# Altium schematic symbol library Capacitor.SchLib: 2 symbols
Pins are listed as number, name and electrical type; pins without a type are passive.

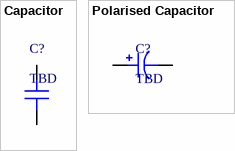
[diagram p0: symbols Capacitor to Polarised Capacitor]

## Capacitor
designator C?, comment TBD
Capacitor; Value: TBD
pins: 1, 2

## Polarised Capacitor
designator C?, comment TBD
Polarised Capacitor; Value: TBD
pins: 1, 2